# EAGLE library part 2N3958 (library tranzistory FET)
Monolithic N-Channel JFET Dual
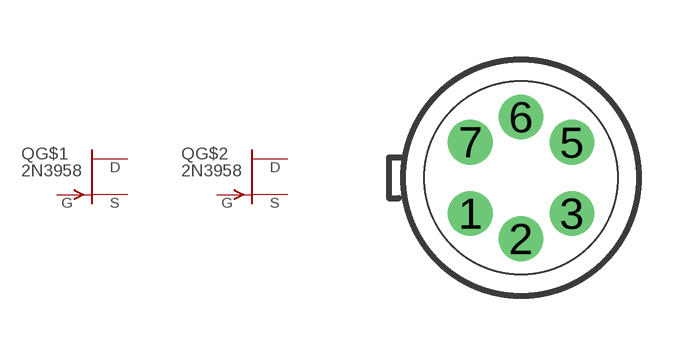
[diagram p0: symbol with the pads of TO71; footprint TO71]

Designator prefix Q; gates G$1=JFET-N G$2=JFET-N

## 2N3958  [TO71]
1  G$1:S  pas
2  G$1:D  pas
3  G$1:G  pas
5  G$2:S  pas
6  G$2:D  pas
7  G$2:G  pas

## Footprint TO71 (pad centres in mm)
drill 0.61 round: 1 -1.27,-0.889; 2 0,-1.524; 3 1.27,-0.889; 5 1.27,0.889; 6 0,1.524; 7 -1.27,0.889